# EAGLE library part CS5467 (library Cool_Electricity)
CS5467 Power monitoring chip
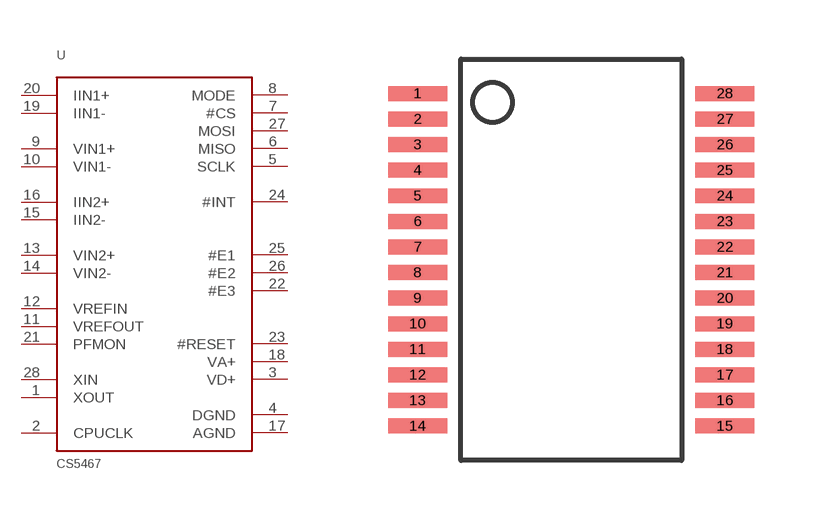
[diagram p2: symbol with the pads of SSOP28L_CIRRUS; footprint SSOP28L_CIRRUS]

Designator prefix U

## CS5467  [SSOP28L_CIRRUS]
1  XOUT
2  CPUCLK
3  VD+
4  DGND
5  SCLK
6  MISO
7  #CS
8  MODE
9  VIN1+
10  VIN1-
11  VREFOUT
12  VREFIN
13  VIN2+
14  VIN2-
15  IIN2-
16  IIN2+
17  AGND
18  VA+
19  IIN1-
20  IIN1+
21  PFMON
22  #E3
23  #RESET
24  #INT
25  #E1
26  #E2
27  MOSI
28  XIN

## Footprint SSOP28L_CIRRUS (pad centres in mm)
smd 1.5 x 0.38: 1 -3.9,4.225; 2 -3.9,3.575; 3 -3.9,2.925; 4 -3.9,2.275; 5 -3.9,1.625; 6 -3.9,0.975; 7 -3.9,0.325; 8 -3.9,-0.325; 9 -3.9,-0.975; 10 -3.9,-1.625; 11 -3.9,-2.275; 12 -3.9,-2.925; 13 -3.9,-3.575; 14 -3.9,-4.225; 15 3.9,-4.225; 16 3.9,-3.575; 17 3.9,-2.925; 18 3.9,-2.275; 19 3.9,-1.625; 20 3.9,-0.975; 21 3.9,-0.325; 22 3.9,0.325; 23 3.9,0.975; 24 3.9,1.625; 25 3.9,2.275; 26 3.9,2.925; 27 3.9,3.575; 28 3.9,4.225